# EAGLE library part S16B-PH-KL (library con-JST-PH)
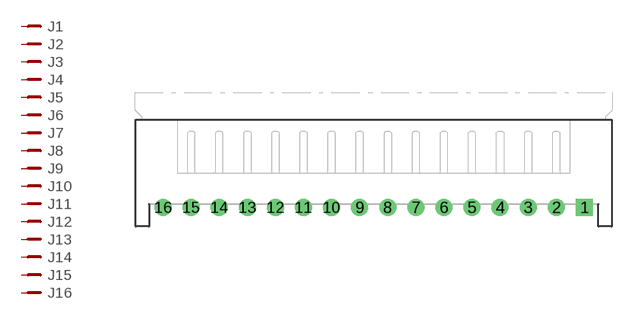
[diagram p2: symbol with the pads of S16B-PH-K-S; footprint S16B-PH-K-S]

Designator prefix J; gates 1=PM-N 2=PM-N 3=PM-N 4=PM-N 5=PM-N 6=PM-N 7=PM-N 8=PM-N 9=PM-N 10=PM-N 11=PM-N 12=PM-N 13=PM-N 14=PM-N 15=PM-N 16=PM-N

## S16B-PH-KL  [S16B-PH-K-S]
1  1:1  pas
2  2:1  pas
3  3:1  pas
4  4:1  pas
5  5:1  pas
6  6:1  pas
7  7:1  pas
8  8:1  pas
9  9:1  pas
10  10:1  pas
11  11:1  pas
12  12:1  pas
13  13:1  pas
14  14:1  pas
15  15:1  pas
16  16:1  pas

## Footprint S16B-PH-K-S (pad centres in mm)
JST-PH (2mm) 16-pin through-hole right-angle Wire-Board connector
drill 0.7 square: 1 15,-2.45
drill 0.7: 2 13,-2.45; 3 11,-2.45; 4 9,-2.45; 5 7,-2.45; 6 5,-2.45; 7 3,-2.45; 8 1,-2.45; 9 -1,-2.45; 10 -3,-2.45; 11 -5,-2.45; 12 -7,-2.45; 13 -9,-2.45; 14 -11,-2.45; 15 -13,-2.45; 16 -15,-2.45